# EAGLE library part RTL8019AS (library RTL8019AS)
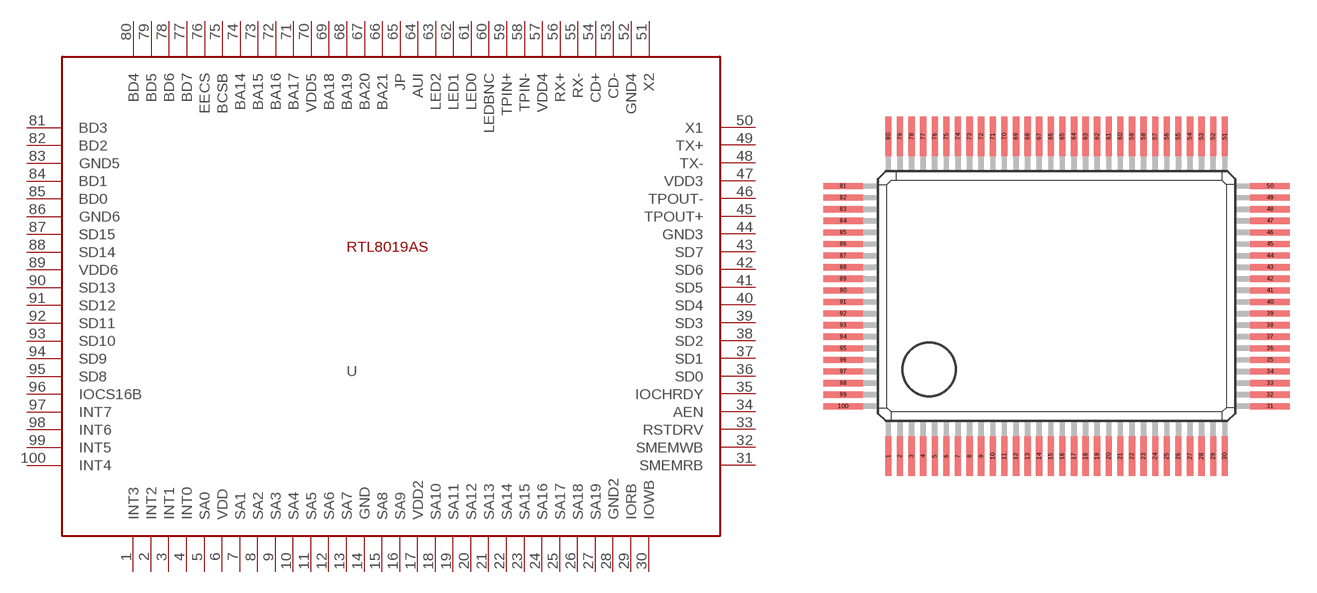
[diagram p0: symbol with the pads of RTL8019AS; footprint RTL8019AS]

Designator prefix -

## RTL8019AS  [RTL8019AS]
1  INT3
2  INT2
3  INT1
4  INT0
5  SA0
6  VDD  pwr
7  SA1
8  SA2
9  SA3
10  SA4
11  SA5
12  SA6
13  SA7
14  GND  pwr
15  SA8
16  SA9
17  VDD2  pwr
18  SA10
19  SA11
20  SA12
21  SA13
22  SA14
23  SA15
24  SA16
25  SA17
26  SA18
27  SA19
28  GND2  pwr
29  IORB
30  IOWB
31  SMEMRB
32  SMEMWB
33  RSTDRV
34  AEN
35  IOCHRDY
36  SD0
37  SD1
38  SD2
39  SD3
40  SD4
41  SD5
42  SD6
43  SD7
44  GND3  pwr
45  TPOUT+
46  TPOUT-
47  VDD3  pwr
48  TX-
49  TX+
50  X1
51  X2
52  GND4  pwr
53  CD-
54  CD+
55  RX-
56  RX+
57  VDD4  pwr
58  TPIN-
59  TPIN+
60  LEDBNC
61  LED0
62  LED1
63  LED2
64  AUI
65  JP
66  BA21
67  BA20
68  BA19
69  BA18
70  VDD5  pwr
71  BA17
72  BA16
73  BA15
74  BA14
75  BCSB
76  EECS
77  BD7
78  BD6
79  BD5
80  BD4
81  BD3
82  BD2
83  GND5  pwr
84  BD1
85  BD0
86  GND6  pwr
87  SD15
88  SD14
89  VDD6  pwr
90  SD13
91  SD12
92  SD11
93  SD10
94  SD9
95  SD8
96  IOCS16B
97  INT7
98  INT6
99  INT5
100  INT4

## Footprint RTL8019AS (pad centres in mm)
smd 0.35 x 2.2: 1 -9.425,-8.965; 2 -8.775,-8.965; 3 -8.125,-8.965; 4 -7.475,-8.965; 5 -6.825,-8.965; 6 -6.175,-8.965; 7 -5.525,-8.965; 8 -4.875,-8.965; 9 -4.225,-8.965; 10 -3.575,-8.965; 11 -2.925,-8.965; 12 -2.275,-8.965; 13 -1.625,-8.965; 14 -0.975,-8.965; 15 -0.325,-8.965; 16 0.325,-8.965; 17 0.975,-8.965; 18 1.625,-8.965; 19 2.275,-8.965; 20 2.925,-8.965; 21 3.575,-8.965; 22 4.225,-8.965; 23 4.875,-8.965; 24 5.525,-8.965; 25 6.175,-8.965; 26 6.825,-8.965; 27 7.475,-8.965; 28 8.125,-8.965; 29 8.775,-8.965; 30 9.425,-8.965; 51 9.425,8.965; 52 8.775,8.965; 53 8.125,8.965; 54 7.475,8.965; 55 6.825,8.965; 56 6.175,8.965; 57 5.525,8.965; 58 4.875,8.965; 59 4.225,8.965; 60 3.575,8.965; 61 2.925,8.965; 62 2.275,8.965; 63 1.625,8.965; 64 0.975,8.965; 65 0.325,8.965; 66 -0.325,8.965; 67 -0.975,8.965; 68 -1.625,8.965; 69 -2.275,8.965; 70 -2.925,8.965; 71 -3.575,8.965; 72 -4.225,8.965; 73 -4.875,8.965; 74 -5.525,8.965; 75 -6.175,8.965; 76 -6.825,8.965; 77 -7.475,8.965; 78 -8.125,8.965; 79 -8.775,8.965; 80 -9.425,8.965
smd 2.2 x 0.35: 31 11.965,-6.175; 32 11.965,-5.525; 33 11.965,-4.875; 34 11.965,-4.225; 35 11.965,-3.575; 36 11.965,-2.925; 37 11.965,-2.275; 38 11.965,-1.625; 39 11.965,-0.975; 40 11.965,-0.325; 41 11.965,0.325; 42 11.965,0.975; 43 11.965,1.625; 44 11.965,2.275; 45 11.965,2.925; 46 11.965,3.575; 47 11.965,4.225; 48 11.965,4.875; 49 11.965,5.525; 50 11.965,6.175; 81 -11.965,6.175; 82 -11.965,5.525; 83 -11.965,4.875; 84 -11.965,4.225; 85 -11.965,3.575; 86 -11.965,2.925; 87 -11.965,2.275; 88 -11.965,1.625; 89 -11.965,0.975; 90 -11.965,0.325; 91 -11.965,-0.325; 92 -11.965,-0.975; 93 -11.965,-1.625; 94 -11.965,-2.275; 95 -11.965,-2.925; 96 -11.965,-3.575; 97 -11.965,-4.225; 98 -11.965,-4.875; 99 -11.965,-5.525; 100 -11.965,-6.175